# EAGLE library part MCP660 (library 0myLib)
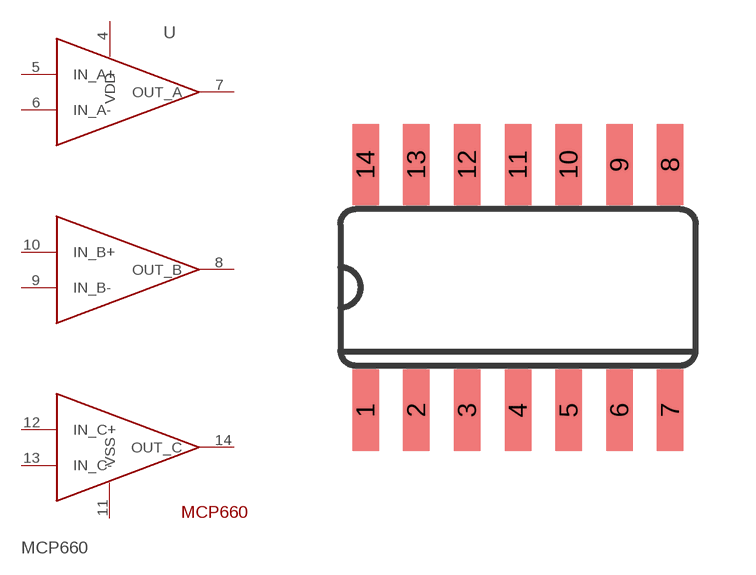
[diagram p59: symbol with the pads of SO14; footprint SO14]

Designator prefix -

## MCP660  [SO14]
4  VDD
5  IN_A+
6  IN_A-
7  OUT_A
8  OUT_B
9  IN_B-
10  IN_B+
11  VSS
12  IN_C+
13  IN_C-
14  OUT_C

## Footprint SO14 (pad centres in mm)
Small Outline package 150 mil
smd 0.66 x 2.032: 1 -3.81,-3.073; 2 -2.54,-3.073; 3 -1.27,-3.073; 4 0,-3.073; 5 1.27,-3.073; 6 2.54,-3.073; 7 3.81,-3.073; 8 3.81,3.073; 9 2.54,3.073; 10 1.27,3.073; 11 0,3.073; 12 -1.27,3.073; 13 -2.54,3.073; 14 -3.81,3.073